# Altium schematic symbol library RF_Amplifier.SchLib: 77 symbols
Pins are listed as number, name and electrical type; pins without a type are passive.

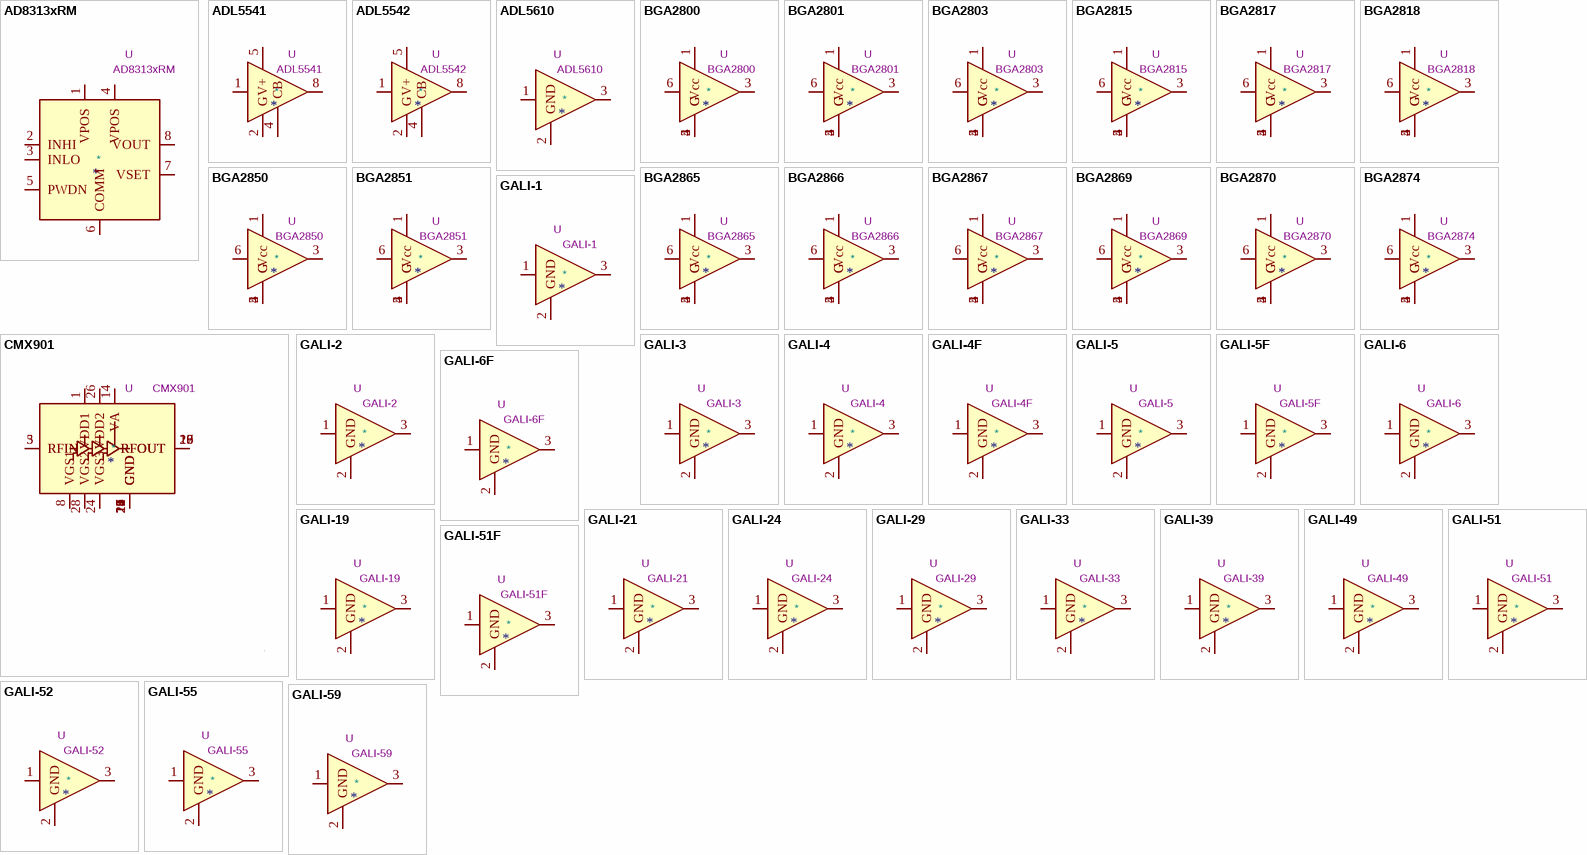
[diagram p0: symbols AD8313xRM to GALI-59]

## AD8313xRM
designator *  value AD8313xRM  Reference: U
100 MHz to 2.5 GHz, 80 dB Logarithmic Detector / Controller, MSOP-8; ki_keywords: RF LOG POWER DETECTOR; ki_fp_filters: MSOP*3x3mm*P0.65mm*; Footprint: Package_SO:MSOP-8_3x3mm_P0.65mm; Datasheet: https://www.analog.com/media/en/technical-documentation/data-sheets/AD8313.pdf; Description_: 100 MHz to 2.5 GHz, 80 dB Logarithmic Detector / Controller, MSOP-8
pins: 1 VPOS, 2 INHI, 3 INLO, 4 VPOS, 5 PWDN, 6 COMM, 7 VSET, 8 VOUT

## ADL5541
designator *  value ADL5541  Reference: U
20-6000MHz RF/IF +15dB gain block, LFCSP-8; ki_keywords: RF GAIN BLOCK; ki_fp_filters: Analog*LFCSP*1EP*3x3mm*P0.5mm*EP1.53x1.85mm*; Footprint: Package_CSP:Analog_LFCSP-8-1EP_3x3mm_P0.5mm_EP1.53x1.85mm; Datasheet: https://www.analog.com/media/en/technical-documentation/data-sheets/ADL5541.pdf; Description_: 20-6000MHz RF/IF +15dB gain block, LFCSP-8
pins: 1, 2 G, 4 CB, 5 V+, 8

## ADL5542
designator *  value ADL5542  Reference: U
20-6000MHz RF/IF +20dB gain block, LFCSP-8; ki_keywords: RF GAIN BLOCK; ki_fp_filters: Analog*LFCSP*1EP*3x3mm*P0.5mm*EP1.53x1.85mm*; Footprint: Package_CSP:Analog_LFCSP-8-1EP_3x3mm_P0.5mm_EP1.53x1.85mm; Datasheet: https://www.analog.com/media/en/technical-documentation/data-sheets/ADL5542.pdf; Description_: 20-6000MHz RF/IF +20dB gain block, LFCSP-8
pins: 1, 2 G, 4 CB, 5 V+, 8

## ADL5610
designator *  value ADL5610  Reference: U
30-6000MHz RF/IF +18.4dB gain block, SOT-89; ki_keywords: RF GAIN BLOCK; ki_fp_filters: SOT?89*; Footprint: Package_TO_SOT_SMD:SOT-89-3; Datasheet: https://www.analog.com/media/en/technical-documentation/data-sheets/ADL5610.pdf; Description_: 30-6000MHz RF/IF +18.4dB gain block, SOT-89
pins: 1, 2 GND, 3

## BGA2800
designator *  value BGA2800  Reference: U
MMIC wideband amplifier, DC-2.2GHz, +20.2dB @ 2150MHz, 3.3V, SOT-363; ki_keywords: RF GAIN BLOCK; ki_fp_filters: SOT*363*; Footprint: Package_TO_SOT_SMD:SOT-363_SC-70-6; Datasheet: https://www.nxp.com/docs/en/data-sheet/BGA2800.pdf; Description_: MMIC wideband amplifier, DC-2.2GHz, +20.2dB @ 2150MHz, 3.3V, SOT-363
pins: 1 Vcc, 2 G, 3, 4 G, 5 G, 6

## BGA2801
designator *  value BGA2801  Reference: U
MMIC wideband amplifier, DC-2.2GHz, +23dB @ 2120MHz, 3.3V, SOT-363; ki_keywords: RF GAIN BLOCK; ki_fp_filters: SOT*363*; Footprint: Package_TO_SOT_SMD:SOT-363_SC-70-6; Datasheet: https://www.nxp.com/docs/en/data-sheet/BGA2801.pdf; Description_: MMIC wideband amplifier, DC-2.2GHz, +23dB @ 2120MHz, 3.3V, SOT-363
pins: 1 Vcc, 2 G, 3, 4 G, 5 G, 6

## BGA2803
designator *  value BGA2803  Reference: U
MMIC wideband amplifier, DC-2.2GHz, +23.6dB @ 950MHz, 3V, SOT-363; ki_keywords: RF GAIN BLOCK; ki_fp_filters: SOT*363*; Footprint: Package_TO_SOT_SMD:SOT-363_SC-70-6; Datasheet: https://www.nxp.com/docs/en/data-sheet/BGA2803.pdf; Description_: MMIC wideband amplifier, DC-2.2GHz, +23.6dB @ 950MHz, 3V, SOT-363
pins: 1 Vcc, 2 G, 3, 4 G, 5 G, 6

## BGA2815
designator *  value BGA2815  Reference: U
MMIC wideband amplifier, DC-2.2GHz, +24.7dB @ 2150MHz, 3.3V, SOT-363; ki_keywords: RF GAIN BLOCK; ki_fp_filters: SOT*363*; Footprint: Package_TO_SOT_SMD:SOT-363_SC-70-6; Datasheet: https://www.nxp.com/docs/en/data-sheet/BGA2815.pdf; Description_: MMIC wideband amplifier, DC-2.2GHz, +24.7dB @ 2150MHz, 3.3V, SOT-363
pins: 1 Vcc, 2 G, 3, 4 G, 5 G, 6

## BGA2817
designator *  value BGA2817  Reference: U
MMIC wideband amplifier, DC-2.2GHz, +24.4dB @ 2150MHz, 3.3V, SOT-363; ki_keywords: RF GAIN BLOCK; ki_fp_filters: SOT*363*; Footprint: Package_TO_SOT_SMD:SOT-363_SC-70-6; Datasheet: https://www.nxp.com/docs/en/data-sheet/BGA2817.pdf; Description_: MMIC wideband amplifier, DC-2.2GHz, +24.4dB @ 2150MHz, 3.3V, SOT-363
pins: 1 Vcc, 2 G, 3, 4 G, 5 G, 6

## BGA2818
designator *  value BGA2818  Reference: U
MMIC wideband amplifier, DC-2.2GHz, +30dB @ 2150MHz, 3.3V, SOT-363; ki_keywords: RF GAIN BLOCK; ki_fp_filters: SOT*363*; Footprint: Package_TO_SOT_SMD:SOT-363_SC-70-6; Datasheet: https://www.nxp.com/docs/en/data-sheet/BGA2818.pdf; Description_: MMIC wideband amplifier, DC-2.2GHz, +30dB @ 2150MHz, 3.3V, SOT-363
pins: 1 Vcc, 2 G, 3, 4 G, 5 G, 6

## BGA2850
designator *  value BGA2850  Reference: U
MIC wideband amplifier, DC-2.2GHz, +24dB @ 950MHz, 5V, SOT-363-6; ki_keywords: RF GAIN BLOCK; ki_fp_filters: SOT*363*; Footprint: Package_TO_SOT_SMD:SOT-363_SC-70-6; Datasheet: https://www.nxp.com/docs/en/data-sheet/BGA2850.pdf; Description_: MIC wideband amplifier, DC-2.2GHz, +24dB @ 950MHz, 5V, SOT-363-6
pins: 1 Vcc, 2 G, 3, 4 G, 5 G, 6

## BGA2851
designator *  value BGA2851  Reference: U
MMIC wideband amplifier, DC-2.2GHz, +24.8dB @ 950MHz, 5V, SOT-363-6; ki_keywords: RF GAIN BLOCK; ki_fp_filters: SOT*363*; Footprint: Package_TO_SOT_SMD:SOT-363_SC-70-6; Datasheet: https://www.nxp.com/docs/en/data-sheet/BGA2851.pdf; Description_: MMIC wideband amplifier, DC-2.2GHz, +24.8dB @ 950MHz, 5V, SOT-363-6
pins: 1 Vcc, 2 G, 3, 4 G, 5 G, 6

## BGA2865
designator *  value BGA2865  Reference: U
MMIC wideband amplifier, DC-2.2GHz, +32.2dB @ 950MHz, 5V, SOT-363; ki_keywords: RF GAIN BLOCK; ki_fp_filters: SOT*363*; Footprint: Package_TO_SOT_SMD:SOT-363_SC-70-6; Datasheet: https://www.nxp.com/docs/en/data-sheet/BGA2865.pdf; Description_: MMIC wideband amplifier, DC-2.2GHz, +32.2dB @ 950MHz, 5V, SOT-363
pins: 1 Vcc, 2 G, 3, 4 G, 5 G, 6

## BGA2866
designator *  value BGA2866  Reference: U
MMIC wideband amplifier, DC-2.2GHz, +24.3dB @ 2150MHz, 5V, SOT-363; ki_keywords: RF GAIN BLOCK; ki_fp_filters: SOT*363*; Footprint: Package_TO_SOT_SMD:SOT-363_SC-70-6; Datasheet: https://www.nxp.com/docs/en/data-sheet/BGA2866.pdf; Description_: MMIC wideband amplifier, DC-2.2GHz, +24.3dB @ 2150MHz, 5V, SOT-363
pins: 1 Vcc, 2 G, 3, 4 G, 5 G, 6

## BGA2867
designator *  value BGA2867  Reference: U
MMIC wideband amplifier, DC-2.2GHz, +26.4dB @ 2150MHz, 5V, SOT-363; ki_keywords: RF GAIN BLOCK; ki_fp_filters: SOT*363*; Footprint: Package_TO_SOT_SMD:SOT-363_SC-70-6; Datasheet: https://www.nxp.com/docs/en/data-sheet/BGA2867.pdf; Description_: MMIC wideband amplifier, DC-2.2GHz, +26.4dB @ 2150MHz, 5V, SOT-363
pins: 1 Vcc, 2 G, 3, 4 G, 5 G, 6

## BGA2869
designator *  value BGA2869  Reference: U
MMIC wideband amplifier, DC-2.2GHz, +31.7dB @ 950MHz, 5V, SOT-363; ki_keywords: RF GAIN BLOCK; ki_fp_filters: SOT*363*; Footprint: Package_TO_SOT_SMD:SOT-363_SC-70-6; Datasheet: https://www.nxp.com/docs/en/data-sheet/BGA2869.pdf; Description_: MMIC wideband amplifier, DC-2.2GHz, +31.7dB @ 950MHz, 5V, SOT-363
pins: 1 Vcc, 2 G, 3, 4 G, 5 G, 6

## BGA2870
designator *  value BGA2870  Reference: U
MMIC wideband amplifier, DC-2.2GHz, +31.1dB @ 500MHz, 2.5V, SOT-363; ki_keywords: RF GAIN BLOCK; ki_fp_filters: SOT*363*; Footprint: Package_TO_SOT_SMD:SOT-363_SC-70-6; Datasheet: https://www.nxp.com/docs/en/data-sheet/BGA2870.pdf; Description_: MMIC wideband amplifier, DC-2.2GHz, +31.1dB @ 500MHz, 2.5V, SOT-363
pins: 1 Vcc, 2 G, 3, 4 G, 5 G, 6

## BGA2874
designator *  value BGA2874  Reference: U
MMIC wideband amplifier, DC-2.2GHz, +31dB @ 750MHz, 2.5V, SOT-363; ki_keywords: RF GAIN BLOCK; ki_fp_filters: SOT*363*; Footprint: Package_TO_SOT_SMD:SOT-363_SC-70-6; Datasheet: https://www.nxp.com/docs/en/data-sheet/BGA2874.pdf; Description_: MMIC wideband amplifier, DC-2.2GHz, +31dB @ 750MHz, 2.5V, SOT-363
pins: 1 Vcc, 2 G, 3, 4 G, 5 G, 6

## CMX901
designator *  value CMX901  Reference: U
Broadband Efficient RF Power Amplifier; ki_keywords: RF POWER AMPLIFIER BROADBAND; ki_fp_filters: QFN*28*1EP*5x5mm*P0.5mm*EP3.35x3.35mm*; Footprint: Package_DFN_QFN:QFN-28-1EP_5x5mm_P0.5mm_EP3.35x3.35mm_ThermalVias; Datasheet: https://www.cmlmicro.com/wp-content/uploads/2017/10/CMX901_ds.pdf; Description_: Broadband Efficient RF Power Amplifier
pins: 1 VDD1, 2 GND, 3 RFIN, 4 GND, 5 RFIN, 6 GND, 7 GND, 8 VGS1, 9 GND, 10 GND, 11 GND, 12 GND, 13 GND, 14 VA, 15 GND, 16 RFOUT, 17 RFOUT, 18 RFOUT, 19 RFOUT, 20 RFOUT, 21 GND, 22 GND, 23 GND, 24 VGS3, 25 GND, 26 VDD2, 27 GND, 28 VGS2, 29 GND

## GALI-1
designator *  value GALI-1  Reference: U
DC-8000MHz +11.8dB Gain Block, SOT-89; ki_keywords: RF amplifier; ki_fp_filters: SOT?89*; Footprint: Package_TO_SOT_SMD:SOT-89-3; Datasheet: https://www.minicircuits.com/pdfs/GALI-1+.pdf; Description_: DC-8000MHz +11.8dB Gain Block, SOT-89
pins: 1, 2 GND, 3

## GALI-2
designator *  value GALI-2  Reference: U
DC-8000MHz +14.8dB Gain Block, SOT-89; ki_keywords: RF amplifier; ki_fp_filters: SOT?89*; Footprint: Package_TO_SOT_SMD:SOT-89-3; Datasheet: https://www.minicircuits.com/pdfs/GALI-2+.pdf; Description_: DC-8000MHz +14.8dB Gain Block, SOT-89
pins: 1, 2 GND, 3

## GALI-3
designator *  value GALI-3  Reference: U
DC-3000MHz +19.1dB Gain Block, SOT-89; ki_keywords: RF amplifier; ki_fp_filters: SOT?89*; Footprint: Package_TO_SOT_SMD:SOT-89-3; Datasheet: https://www.minicircuits.com/pdfs/GALI-3+.pdf; Description_: DC-3000MHz +19.1dB Gain Block, SOT-89
pins: 1, 2 GND, 3

## GALI-4
designator *  value GALI-4  Reference: U
DC-4000MHz +13.5dB Gain Block, SOT-89; ki_keywords: RF amplifier; ki_fp_filters: SOT?89*; Footprint: Package_TO_SOT_SMD:SOT-89-3; Datasheet: https://www.minicircuits.com/pdfs/GALI-4+.pdf; Description_: DC-4000MHz +13.5dB Gain Block, SOT-89
pins: 1, 2 GND, 3

## GALI-4F
designator *  value GALI-4F  Reference: U
DC-4000MHz +13.4dB Gain Block, SOT-89; ki_keywords: RF amplifier; ki_fp_filters: SOT?89*; Footprint: Package_TO_SOT_SMD:SOT-89-3; Datasheet: https://www.minicircuits.com/pdfs/GALI-4F+.pdf; Description_: DC-4000MHz +13.4dB Gain Block, SOT-89
pins: 1, 2 GND, 3

## GALI-5
designator *  value GALI-5  Reference: U
DC-4000MHz +17.5dB Gain Block, SOT-89; ki_keywords: RF amplifier; ki_fp_filters: SOT?89*; Footprint: Package_TO_SOT_SMD:SOT-89-3; Datasheet: https://www.minicircuits.com/pdfs/GALI-5+.pdf; Description_: DC-4000MHz +17.5dB Gain Block, SOT-89
pins: 1, 2 GND, 3

## GALI-5F
designator *  value GALI-5F  Reference: U
DC-4000MHz +17.4dB Gain Block, SOT-89; ki_keywords: RF amplifier; ki_fp_filters: SOT?89*; Footprint: Package_TO_SOT_SMD:SOT-89-3; Datasheet: https://www.minicircuits.com/pdfs/GALI-5F+.pdf; Description_: DC-4000MHz +17.4dB Gain Block, SOT-89
pins: 1, 2 GND, 3

## GALI-6
designator *  value GALI-6  Reference: U
DC-4000MHz +11.3dB Gain Block, SOT-89; ki_keywords: RF amplifier; ki_fp_filters: SOT?89*; Footprint: Package_TO_SOT_SMD:SOT-89-3; Datasheet: https://www.minicircuits.com/pdfs/GALI-6+.pdf; Description_: DC-4000MHz +11.3dB Gain Block, SOT-89
pins: 1, 2 GND, 3

## GALI-6F
designator *  value GALI-6F  Reference: U
DC-4000MHz +11.6dB Gain Block, SOT-89; ki_keywords: RF amplifier; ki_fp_filters: SOT?89*; Footprint: Package_TO_SOT_SMD:SOT-89-3; Datasheet: https://www.minicircuits.com/pdfs/GALI-6F+.pdf; Description_: DC-4000MHz +11.6dB Gain Block, SOT-89
pins: 1, 2 GND, 3

## GALI-19
designator *  value GALI-19  Reference: U
DC-7000MHz +11.6dB Gain Block, SOT-89; ki_keywords: RF amplifier; ki_fp_filters: SOT?89*; Footprint: Package_TO_SOT_SMD:SOT-89-3; Datasheet: https://www.minicircuits.com/pdfs/GALI-19+.pdf; Description_: DC-7000MHz +11.6dB Gain Block, SOT-89
pins: 1, 2 GND, 3

## GALI-21
designator *  value GALI-21  Reference: U
DC-8000MHz +13.1dB Gain Block, SOT-89; ki_keywords: RF amplifier; ki_fp_filters: SOT?89*; Footprint: Package_TO_SOT_SMD:SOT-89-3; Datasheet: https://www.minicircuits.com/pdfs/GALI-21+.pdf; Description_: DC-8000MHz +13.1dB Gain Block, SOT-89
pins: 1, 2 GND, 3

## GALI-24
designator *  value GALI-24  Reference: U
DC-6000MHz +16.6dB Gain Block, SOT-89; ki_keywords: RF amplifier; ki_fp_filters: SOT?89*; Footprint: Package_TO_SOT_SMD:SOT-89-3; Datasheet: https://www.minicircuits.com/pdfs/GALI-24+.pdf; Description_: DC-6000MHz +16.6dB Gain Block, SOT-89
pins: 1, 2 GND, 3

## GALI-29
designator *  value GALI-29  Reference: U
DC-7000MHz +19.7dB Gain Block, SOT-89; ki_keywords: RF amplifier; ki_fp_filters: SOT?89*; Footprint: Package_TO_SOT_SMD:SOT-89-3; Datasheet: https://www.minicircuits.com/pdfs/GALI-29+.pdf; Description_: DC-7000MHz +19.7dB Gain Block, SOT-89
pins: 1, 2 GND, 3

## GALI-33
designator *  value GALI-33  Reference: U
DC-4000MHz +17.5dB Gain Block, SOT-89; ki_keywords: RF amplifier; ki_fp_filters: SOT?89*; Footprint: Package_TO_SOT_SMD:SOT-89-3; Datasheet: https://www.minicircuits.com/pdfs/GALI-33+.pdf; Description_: DC-4000MHz +17.5dB Gain Block, SOT-89
pins: 1, 2 GND, 3

## GALI-39
designator *  value GALI-39  Reference: U
DC-7000MHz +19.7dB Low Noise Amplifier, SOT-89; ki_keywords: RF amplifier; ki_fp_filters: SOT?89*; Footprint: Package_TO_SOT_SMD:SOT-89-3; Datasheet: https://www.minicircuits.com/pdfs/GALI-39+.pdf; Description_: DC-7000MHz +19.7dB Low Noise Amplifier, SOT-89
pins: 1, 2 GND, 3

## GALI-49
designator *  value GALI-49  Reference: U
DC-5000MHz +13.6dB Gain Block, SOT-89; ki_keywords: RF amplifier; ki_fp_filters: SOT?89*; Footprint: Package_TO_SOT_SMD:SOT-89-3; Datasheet: https://www.minicircuits.com/pdfs/GALI-49+.pdf; Description_: DC-5000MHz +13.6dB Gain Block, SOT-89
pins: 1, 2 GND, 3

## GALI-51
designator *  value GALI-51  Reference: U
DC-4000MHz +16.1dB Gain Block, SOT-89; ki_keywords: RF amplifier; ki_fp_filters: SOT?89*; Footprint: Package_TO_SOT_SMD:SOT-89-3; Datasheet: https://www.minicircuits.com/pdfs/GALI-51+.pdf; Description_: DC-4000MHz +16.1dB Gain Block, SOT-89
pins: 1, 2 GND, 3

## GALI-51F
designator *  value GALI-51F  Reference: U
DC-4000MHz +15.9dB Gain Block, SOT-89; ki_keywords: RF amplifier; ki_fp_filters: SOT?89*; Footprint: Package_TO_SOT_SMD:SOT-89-3; Datasheet: https://www.minicircuits.com/pdfs/GALI-51F+.pdf; Description_: DC-4000MHz +15.9dB Gain Block, SOT-89
pins: 1, 2 GND, 3

## GALI-52
designator *  value GALI-52  Reference: U
DC-2000MHz +17.8dB Low Noise Amplifier, SOT-89; ki_keywords: RF amplifier; ki_fp_filters: SOT?89*; Footprint: Package_TO_SOT_SMD:SOT-89-3; Datasheet: https://www.minicircuits.com/pdfs/GALI-52+.pdf; Description_: DC-2000MHz +17.8dB Low Noise Amplifier, SOT-89
pins: 1, 2 GND, 3

## GALI-55
designator *  value GALI-55  Reference: U
DC-4000MHz +18.5dB Gain Block, SOT-89; ki_keywords: RF amplifier; ki_fp_filters: SOT?89*; Footprint: Package_TO_SOT_SMD:SOT-89-3; Datasheet: https://www.minicircuits.com/pdfs/GALI-55+.pdf; Description_: DC-4000MHz +18.5dB Gain Block, SOT-89
pins: 1, 2 GND, 3

## GALI-59
designator *  value GALI-59  Reference: U
DC-5000MHz +18.3dB Gain Block, SOT-89; ki_keywords: RF amplifier; ki_fp_filters: SOT?89*; Footprint: Package_TO_SOT_SMD:SOT-89-3; Datasheet: https://www.minicircuits.com/pdfs/GALI-59+.pdf; Description_: DC-5000MHz +18.3dB Gain Block, SOT-89
pins: 1, 2 GND, 3

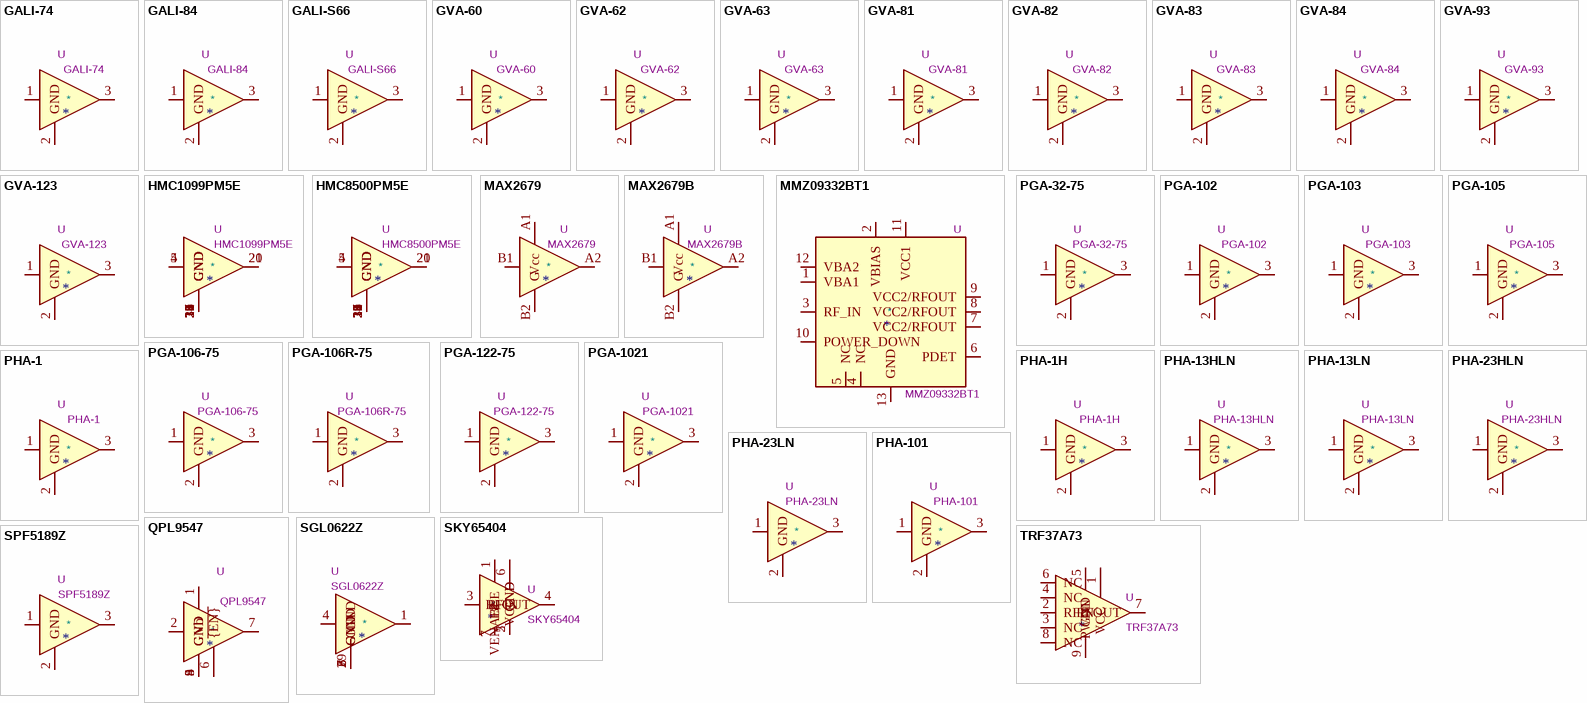
[diagram p1: symbols GALI-74 to TRF37A73]

## GALI-74
designator *  value GALI-74  Reference: U
DC-1000MHz +21.8dB Low Noise Amplifier, SOT-89; ki_keywords: RF amplifier; ki_fp_filters: SOT?89*; Footprint: Package_TO_SOT_SMD:SOT-89-3; Datasheet: https://www.minicircuits.com/pdfs/GALI-74+.pdf; Description_: DC-1000MHz +21.8dB Low Noise Amplifier, SOT-89
pins: 1, 2 GND, 3

## GALI-84
designator *  value GALI-84  Reference: U
DC-6000MHz +16.7dB Gain Block, SOT-89; ki_keywords: RF amplifier; ki_fp_filters: SOT?89*; Footprint: Package_TO_SOT_SMD:SOT-89-3; Datasheet: https://www.minicircuits.com/pdfs/GALI-84+.pdf; Description_: DC-6000MHz +16.7dB Gain Block, SOT-89
pins: 1, 2 GND, 3

## GALI-S66
designator *  value GALI-S66  Reference: U
DC-3000MHz +18.2dB Low Noise Amplifier, SOT-89; ki_keywords: RF amplifier; ki_fp_filters: SOT?89*; Footprint: Package_TO_SOT_SMD:SOT-89-3; Datasheet: https://www.minicircuits.com/pdfs/GALI-S66+.pdf; Description_: DC-3000MHz +18.2dB Low Noise Amplifier, SOT-89
pins: 1, 2 GND, 3

## GVA-60
designator *  value GVA-60  Reference: U
10-5000MHz +19.8dB Gain Block, SOT-89; ki_keywords: RF amplifier; ki_fp_filters: SOT?89*; Footprint: Package_TO_SOT_SMD:SOT-89-3; Datasheet: https://www.minicircuits.com/pdfs/GVA-60+.pdf; Description_: 10-5000MHz +19.8dB Gain Block, SOT-89
pins: 1, 2 GND, 3

## GVA-62
designator *  value GVA-62  Reference: U
10-6000MHz +15.4dB Gain Block, SOT-89; ki_keywords: RF amplifier; ki_fp_filters: SOT?89*; Footprint: Package_TO_SOT_SMD:SOT-89-3; Datasheet: https://www.minicircuits.com/pdfs/GVA-62+.pdf; Description_: 10-6000MHz +15.4dB Gain Block, SOT-89
pins: 1, 2 GND, 3

## GVA-63
designator *  value GVA-63  Reference: U
10-6000MHz +20dB Gain Block, SOT-89; ki_keywords: RF amplifier; ki_fp_filters: SOT?89*; Footprint: Package_TO_SOT_SMD:SOT-89-3; Datasheet: https://www.minicircuits.com/pdfs/GVA-63+.pdf; Description_: 10-6000MHz +20dB Gain Block, SOT-89
pins: 1, 2 GND, 3

## GVA-81
designator *  value GVA-81  Reference: U
DC-6000MHz +10dB Gain Block, SOT-89; ki_keywords: RF amplifier; ki_fp_filters: SOT?89*; Footprint: Package_TO_SOT_SMD:SOT-89-3; Datasheet: https://www.minicircuits.com/pdfs/GVA-81+.pdf; Description_: DC-6000MHz +10dB Gain Block, SOT-89
pins: 1, 2 GND, 3

## GVA-82
designator *  value GVA-82  Reference: U
DC-7000MHz +13.8dB Gain Block, SOT-89; ki_keywords: RF amplifier; ki_fp_filters: SOT?89*; Footprint: Package_TO_SOT_SMD:SOT-89-3; Datasheet: https://www.minicircuits.com/pdfs/GVA-82+.pdf; Description_: DC-7000MHz +13.8dB Gain Block, SOT-89
pins: 1, 2 GND, 3

## GVA-83
designator *  value GVA-83  Reference: U
DC-7000MHz +17.1dB Gain Block, SOT-89; ki_keywords: RF amplifier; ki_fp_filters: SOT?89*; Footprint: Package_TO_SOT_SMD:SOT-89-3; Datasheet: https://www.minicircuits.com/pdfs/GVA-83+.pdf; Description_: DC-7000MHz +17.1dB Gain Block, SOT-89
pins: 1, 2 GND, 3

## GVA-84
designator *  value GVA-84  Reference: U
DC-7000MHz +16dB Gain Block, SOT-89; ki_keywords: RF amplifier; ki_fp_filters: SOT?89*; Footprint: Package_TO_SOT_SMD:SOT-89-3; Datasheet: https://www.minicircuits.com/pdfs/GVA-84+.pdf; Description_: DC-7000MHz +16dB Gain Block, SOT-89
pins: 1, 2 GND, 3

## GVA-93
designator *  value GVA-93  Reference: U
10-9000MHz +16.9dB Gain Block, SOT-89; ki_keywords: RF amplifier; ki_fp_filters: SOT?89*; Footprint: Package_TO_SOT_SMD:SOT-89-3; Datasheet: https://www.minicircuits.com/pdfs/GVA-93+.pdf; Description_: 10-9000MHz +16.9dB Gain Block, SOT-89
pins: 1, 2 GND, 3

## GVA-123
designator *  value GVA-123  Reference: U
10-12000MHz +16.9dB Gain Block, SOT-89; ki_keywords: RF amplifier; ki_fp_filters: SOT?89*; Footprint: Package_TO_SOT_SMD:SOT-89-3; Datasheet: https://www.minicircuits.com/pdfs/GVA-123+.pdf; Description_: 10-12000MHz +16.9dB Gain Block, SOT-89
pins: 1, 2 GND, 3

## HMC1099PM5E
designator *  value HMC1099PM5E  Reference: U
10 W (40 dBm), 0.01 GHz to 1.1 GHz, GaN Power Amplifier, LFCSP-32; ki_keywords: RF Amplifier; ki_fp_filters: LFCSP*1EP*5x5mm*P0.5mm*; Footprint: Package_CSP:LFCSP-32-1EP_5x5mm_P0.5mm_EP3.1x3.1mm; Datasheet: https://www.analog.com/media/en/technical-documentation/data-sheets/HMC1099PM5E.pdf; Description_: 10 W (40 dBm), 0.01 GHz to 1.1 GHz, GaN Power Amplifier, LFCSP-32
pins: 1 GND, 2 GND, 3 GND, 4, 5, 6 GND, 7 GND, 8 GND, 9 GND, 10 GND, 11 GND, 12 GND, 13 GND, 14 GND, 15 GND, 16 GND, 17 GND, 18 GND, 19 GND, 20, 21, 22 GND, 23 GND, 24 GND, 25 GND, 26 GND, 27 GND, 28 GND, 29 GND, 30 GND, 31 GND, 32 GND, 33 GND

## HMC8500PM5E
designator *  value HMC8500PM5E  Reference: U
10 W (40 dBm), 0.01 GHz to 2.8 GHz, GaN Power Amplifier, LFCSP-32; ki_keywords: RF Amplifier; ki_fp_filters: LFCSP*1EP*5x5mm*P0.5mm*; Footprint: Package_CSP:LFCSP-32-1EP_5x5mm_P0.5mm_EP3.1x3.1mm; Datasheet: https://www.analog.com/media/en/technical-documentation/data-sheets/HMC8500PM5E.pdf; Description_: 10 W (40 dBm), 0.01 GHz to 2.8 GHz, GaN Power Amplifier, LFCSP-32
pins: 1 GND, 2 GND, 3 GND, 4, 5, 6 GND, 7 GND, 8 GND, 9 GND, 10 GND, 11 GND, 12 GND, 13 GND, 14 GND, 15 GND, 16 GND, 17 GND, 18 GND, 19 GND, 20, 21, 22 GND, 23 GND, 24 GND, 25 GND, 26 GND, 27 GND, 28 GND, 29 GND, 30 GND, 31 GND, 32 GND, 33 GND

## MAX2679
designator *  value MAX2679  Reference: U
GPS/GNSS Ultra-Low Current Low-Noise Amplifier, +19dB @ 1.57GHz, WLP-4; ki_keywords: RF GAIN BLOCK; ki_fp_filters: WLP*0.83x0.83mm*P0.4mm*; Footprint: Package_BGA:WLP-4_0.83x0.83mm_P0.4mm; Datasheet: https://datasheets.maximintegrated.com/en/ds/MAX2679-MAX2679B.pdf; Description_: GPS/GNSS Ultra-Low Current Low-Noise Amplifier, +19dB @ 1.57GHz, WLP-4
pins: A1 Vcc, A2, B1, B2 G

## MAX2679B
designator *  value MAX2679B  Reference: U
GPS/GNSS Ultra-Low Current Low-Noise Amplifier, +16.5dB @ 1.57GHz, WLP-4; ki_keywords: RF GAIN BLOCK; ki_fp_filters: WLP*0.83x0.83mm*P0.4mm*; Footprint: Package_BGA:WLP-4_0.83x0.83mm_P0.4mm; Datasheet: https://datasheets.maximintegrated.com/en/ds/MAX2679-MAX2679B.pdf; Description_: GPS/GNSS Ultra-Low Current Low-Noise Amplifier, +16.5dB @ 1.57GHz, WLP-4
pins: A1 Vcc, A2, B1, B2 G

## MMZ09332BT1
designator *  value MMZ09332BT1  Reference: U
High Efficiency/Linearity Amplifier high linearity broadband amplifier, QFN-12; ki_keywords: RF; ki_fp_filters: QFN*3x3mm*P0.5mm*; Footprint: Package_DFN_QFN:QFN-12-1EP_3x3mm_P0.5mm_EP1.6x1.6mm_ThermalVias; Datasheet: https://www.nxp.com/docs/en/data-sheet/MMZ09332B.pdf; Description_: High Efficiency/Linearity Amplifier high linearity broadband amplifier, QFN-12
pins: 1 VBA1, 2 VBIAS, 3 RF_IN, 4 NC, 5 NC, 6 PDET, 7 VCC2/RFOUT, 8 VCC2/RFOUT, 9 VCC2/RFOUT, 10 POWER_DOWN, 11 VCC1, 12 VBA2, 13 GND

## PGA-32-75
designator *  value PGA-32-75  Reference: U
5-300MHz +15.6dB CATV Amplifier, SOT-89; ki_keywords: RF amplifier; ki_fp_filters: SOT?89*; Footprint: Package_TO_SOT_SMD:SOT-89-3; Datasheet: https://www.minicircuits.com/pdfs/PGA-32-75+.pdf; Description_: 5-300MHz +15.6dB CATV Amplifier, SOT-89
pins: 1, 2 GND, 3

## PGA-102
designator *  value PGA-102  Reference: U
50-6000MHz +15.9dB Low Noise Amplifier, SOT-89; ki_keywords: RF amplifier; ki_fp_filters: SOT?89*; Footprint: Package_TO_SOT_SMD:SOT-89-3; Datasheet: https://www.minicircuits.com/pdfs/PGA-102+.pdf; Description_: 50-6000MHz +15.9dB Low Noise Amplifier, SOT-89
pins: 1, 2 GND, 3

## PGA-103
designator *  value PGA-103  Reference: U
50-4000MHz +11dB Low Noise Amplifier, SOT-89; ki_keywords: RF amplifier; ki_fp_filters: SOT?89*; Footprint: Package_TO_SOT_SMD:SOT-89-3; Datasheet: https://www.minicircuits.com/pdfs/PGA-103+.pdf; Description_: 50-4000MHz +11dB Low Noise Amplifier, SOT-89
pins: 1, 2 GND, 3

## PGA-105
designator *  value PGA-105  Reference: U
40-2600MHz +15.1dB Low Noise Amplifier, SOT-89; ki_keywords: RF amplifier; ki_fp_filters: SOT?89*; Footprint: Package_TO_SOT_SMD:SOT-89-3; Datasheet: https://www.minicircuits.com/pdfs/PGA-105+.pdf; Description_: 40-2600MHz +15.1dB Low Noise Amplifier, SOT-89
pins: 1, 2 GND, 3

## PGA-106-75
designator *  value PGA-106-75  Reference: U
50-1500MHz +16.9dB CATV Amplifier, SOT-89; ki_keywords: RF amplifier; ki_fp_filters: SOT?89*; Footprint: Package_TO_SOT_SMD:SOT-89-3; Datasheet: https://www.minicircuits.com/pdfs/PGA-106-75+.pdf; Description_: 50-1500MHz +16.9dB CATV Amplifier, SOT-89
pins: 1, 2 GND, 3

## PGA-106R-75
designator *  value PGA-106R-75  Reference: U
5-250MHz +17.9dB CATV Amplifier, SOT-89; ki_keywords: RF amplifier; ki_fp_filters: SOT?89*; Footprint: Package_TO_SOT_SMD:SOT-89-3; Datasheet: https://www.minicircuits.com/pdfs/PGA-106R-75+.pdf; Description_: 5-250MHz +17.9dB CATV Amplifier, SOT-89
pins: 1, 2 GND, 3

## PGA-122-75
designator *  value PGA-122-75  Reference: U
5-1500MHz +15.5dB CATV Amplifier, SOT-89; ki_keywords: RF amplifier; ki_fp_filters: SOT?89*; Footprint: Package_TO_SOT_SMD:SOT-89-3; Datasheet: https://www.minicircuits.com/pdfs/PGA-122-75+.pdf; Description_: 5-1500MHz +15.5dB CATV Amplifier, SOT-89
pins: 1, 2 GND, 3

## PGA-1021
designator *  value PGA-1021  Reference: U
50-6000MHz +15.1dB Low Noise Amplifier, SOT-89; ki_keywords: RF amplifier; ki_fp_filters: SOT?89*; Footprint: Package_TO_SOT_SMD:SOT-89-3; Datasheet: https://www.minicircuits.com/pdfs/PGA-1021+.pdf; Description_: 50-6000MHz +15.1dB Low Noise Amplifier, SOT-89
pins: 1, 2 GND, 3

## PHA-1
designator *  value PHA-1  Reference: U
50-6000MHz +13.5dB Linear Amplifier, SOT-89; ki_keywords: RF amplifier; ki_fp_filters: SOT?89*; Footprint: Package_TO_SOT_SMD:SOT-89-3; Datasheet: https://www.minicircuits.com/pdfs/PHA-1+.pdf; Description_: 50-6000MHz +13.5dB Linear Amplifier, SOT-89
pins: 1, 2 GND, 3

## PHA-1H
designator *  value PHA-1H  Reference: U
50-6000MHz +13.8dB Linear Amplifier, SOT-89; ki_keywords: RF amplifier; ki_fp_filters: SOT?89*; Footprint: Package_TO_SOT_SMD:SOT-89-3; Datasheet: https://www.minicircuits.com/pdfs/PHA-1H+.pdf; Description_: 50-6000MHz +13.8dB Linear Amplifier, SOT-89
pins: 1, 2 GND, 3

## PHA-13HLN
designator *  value PHA-13HLN  Reference: U
1-1000MHz +22.7dB Low Noise Amplifier, SOT-89; ki_keywords: RF amplifier; ki_fp_filters: SOT?89*; Footprint: Package_TO_SOT_SMD:SOT-89-3; Datasheet: https://www.minicircuits.com/pdfs/PHA-13HLN+.pdf; Description_: 1-1000MHz +22.7dB Low Noise Amplifier, SOT-89
pins: 1, 2 GND, 3

## PHA-13LN
designator *  value PHA-13LN  Reference: U
1-1000MHz +22.4dB Low Noise Amplifier, SOT-89; ki_keywords: RF amplifier; ki_fp_filters: SOT?89*; Footprint: Package_TO_SOT_SMD:SOT-89-3; Datasheet: https://www.minicircuits.com/pdfs/PHA-13LN+.pdf; Description_: 1-1000MHz +22.4dB Low Noise Amplifier, SOT-89
pins: 1, 2 GND, 3

## PHA-23HLN
designator *  value PHA-23HLN  Reference: U
30-2000MHz +21.3dB Low Noise Amplifier, SOT-89; ki_keywords: RF amplifier; ki_fp_filters: SOT?89*; Footprint: Package_TO_SOT_SMD:SOT-89-3; Datasheet: https://www.minicircuits.com/pdfs/PHA-23HLN+.pdf; Description_: 30-2000MHz +21.3dB Low Noise Amplifier, SOT-89
pins: 1, 2 GND, 3

## PHA-23LN
designator *  value PHA-23LN  Reference: U
30-2000MHz +21dB Low Noise Amplifier, SOT-89; ki_keywords: RF amplifier; ki_fp_filters: SOT?89*; Footprint: Package_TO_SOT_SMD:SOT-89-3; Datasheet: https://www.minicircuits.com/pdfs/PHA-23LN+.pdf; Description_: 30-2000MHz +21dB Low Noise Amplifier, SOT-89
pins: 1, 2 GND, 3

## PHA-101
designator *  value PHA-101  Reference: U
50-1500MHz +15.2dB Linear Amplifier, SOT-89; ki_keywords: RF amplifier; ki_fp_filters: SOT?89*; Footprint: Package_TO_SOT_SMD:SOT-89-3; Datasheet: https://www.minicircuits.com/pdfs/PHA-101+.pdf; Description_: 50-1500MHz +15.2dB Linear Amplifier, SOT-89
pins: 1, 2 GND, 3

## QPL9547
designator *  value QPL9547  Reference: U
100-6000MHz RF/IF +19.5dB gain block, DFN-8; ki_keywords: RF GAIN BLOCK; ki_fp_filters: DFN*1EP*2x2mm*P0.5mm*; Footprint: Package_DFN_QFN:DFN-8-1EP_2x2mm_P0.5mm_EP0.8x1.6mm; Datasheet: https://www.qorvo.com/products/d/da007268; Description_: 100-6000MHz RF/IF +19.5dB gain block, DFN-8
pins: 1 Vb, 2, 3 GND, 4 GND, 5 GND, 6 ~{{EN}}, 7, 8 GND, 9 GND

## SGL0622Z
designator *  value SGL0622Z  Reference: U
5 MHz to 4000 MHz, Low-Noise SiGe HBT MMIC Amplifier, DFN-8; ki_keywords: rf gain block; ki_fp_filters: DFN*1EP*2x2mm*P0.5mm*; Footprint: Package_DFN_QFN:DFN-8-1EP_2x2mm_P0.5mm_EP0.6x1.2mm; Datasheet: https://www.qorvo.com/products/d/da001879; Description_: 5 MHz to 4000 MHz, Low-Noise SiGe HBT MMIC Amplifier, DFN-8
pins: 1, 2 GND, 3 GND, 4, 5 GND, 6 GND, 7 GND, 8 GND, 9 GND

## SKY65404
designator *  value SKY65404  Reference: U
4.9-5.9GHz, 13dB Low-Noise Amplifier, QFN-6; ki_keywords: LNA low noise amplifier RF; ki_fp_filters: Skyworks*SKY65404*; Footprint: RF:Skyworks_SKY65404-31; Datasheet: http://www.skyworksinc.com/uploads/documents/SKY65404_31_201512K.pdf; Description_: 4.9-5.9GHz, 13dB Low-Noise Amplifier, QFN-6
pins: 1 VENABLE, 2 GND, 3 RFIN, 4 RFOUT, 5 GND, 6 VCC, 7 EP

## SPF5189Z
designator *  value SPF5189Z  Reference: U
50MHz to 4000MHz, GaAs pHEMT low noise MMIC amplifier, SOT-89; ki_keywords: RF GAIN BLOCK; ki_fp_filters: SOT?89*; Footprint: Package_TO_SOT_SMD:SOT-89-3; Datasheet: www.qorvo.com/products/d/da001910; Description_: 50MHz to 4000MHz, GaAs pHEMT low noise MMIC amplifier, SOT-89
pins: 1, 2 GND, 3

## TRF37A73
designator *  value TRF37A73  Reference: U
6GHz, 12dB RF Gain Block, WSON-8; ki_keywords: gain block RF; ki_fp_filters: WSON*1EP*2x2mm*P0.5mm*; Footprint: Package_SON:WSON-8-1EP_2x2mm_P0.5mm_EP0.9x1.6mm; Datasheet: http://www.ti.com/lit/ds/symlink/trf37a73.pdf; Description_: 6GHz, 12dB RF Gain Block, WSON-8
pins: 1 VCC, 2 RFIN, 3 NC, 4 NC, 5 PWDN, 6 NC, 7 RFOUT, 8 NC, 9 GND